# EAGLE library part SERIES_753_RESISTOR_NETWORK (library custom_parts)
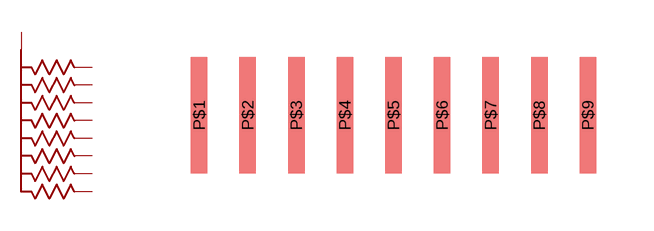
[diagram p11: symbol with the pads of SURFACEMOUNTRESISTORNETWORK9PIN; footprint SURFACEMOUNTRESISTORNETWORK9PIN]

Designator prefix -

## SERIES_753_RESISTOR_NETWORK  [SURFACEMOUNTRESISTORNETWORK9PIN]
P$1  P$1
P$2  P$2
P$3  P$3
P$4  P$4
P$5  P$5
P$6  P$6
P$7  P$7
P$8  P$8
P$9  P$9

## Footprint SURFACEMOUNTRESISTORNETWORK9PIN (pad centres in mm)
smd 0.432 x 3.048: P$1 -5.08,0; P$2 -3.81,0; P$3 -2.54,0; P$4 -1.27,0; P$5 0,0; P$6 1.27,0; P$7 2.54,0; P$8 3.81,0; P$9 5.08,0